# Altium schematic symbol library ROUNDRECT_TEST_FULL.SchLib: 1 symbol
Pins are listed as number, name and electrical type; pins without a type are passive.

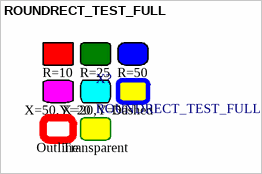
[diagram p0: symbol ROUNDRECT_TEST_FULL]

## ROUNDRECT_TEST_FULL
designator X?
Test round rectangle corner variations
text: R=10; R=25; R=50; X=50,Y=20; X=20,Y=50; Dashed; Outline; Transparent